# Altium footprint library libDigital.PCBLIB: 1 footprints
Each footprint in its own frame and in the unit in brackets; x right, y up, seen from the top. Pads: shape width x height; smd on the part's side, far side on the other; paste and mask are expansions set on the pad; w line width, h text height; cw(c..) or ccw(c..) is an arc to the next point about the centre after c.
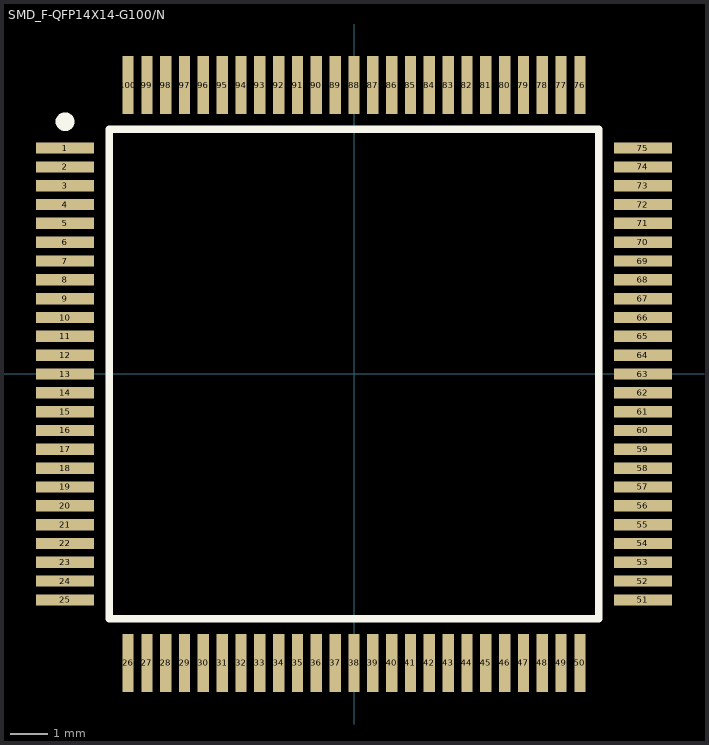
[diagram p0: the footprint, top view; thin cyan lines are the x and y axes]

## SMD_F-QFP14X14-G100/N [mm] "SMD_F-QFP14X14-G100/N"
pads (100):
  rect 1.55x0.3 smd: 1(-7.681,5.992) 2(-7.681,5.492) 3(-7.681,4.992) 4(-7.681,4.492) 5(-7.681,3.992) 6(-7.681,3.492) 7(-7.681,2.992) 8(-7.681,2.492) 9(-7.681,1.992) 10(-7.681,1.492) 11(-7.681,0.992) 12(-7.681,0.492) 13(-7.681,-0.008) 14(-7.681,-0.508) 15(-7.681,-1.008) 16(-7.681,-1.508) 17(-7.681,-2.008) 18(-7.681,-2.508) 19(-7.681,-3.008) 20(-7.681,-3.508) 21(-7.681,-4.008) 22(-7.681,-4.508) 23(-7.681,-5.008) 24(-7.681,-5.508) 25(-7.681,-6.008) 51(7.669,-6.008) 52(7.669,-5.508) 53(7.669,-5.008) 54(7.669,-4.508) 55(7.669,-4.008) 56(7.669,-3.508) 57(7.669,-3.008) 58(7.669,-2.508) 59(7.669,-2.008) 60(7.669,-1.508) 61(7.669,-1.008) 62(7.669,-0.508) 63(7.669,-0.008) 64(7.669,0.492) 65(7.669,0.992) 66(7.669,1.492) 67(7.669,1.992) 68(7.669,2.492) 69(7.669,2.992) 70(7.669,3.492) 71(7.669,3.992) 72(7.669,4.492) 73(7.669,4.992) 74(7.669,5.492) 75(7.669,5.992)
  rect 0.3x1.55 smd: 26(-6.006,-7.683) 27(-5.506,-7.683) 28(-5.006,-7.683) 29(-4.506,-7.683) 30(-4.006,-7.683) 31(-3.506,-7.683) 32(-3.006,-7.683) 33(-2.506,-7.683) 34(-2.006,-7.683) 35(-1.506,-7.683) 36(-1.006,-7.683) 37(-0.506,-7.683) 38(-0.006,-7.683) 39(0.494,-7.683) 40(0.994,-7.683) 41(1.494,-7.683) 42(1.994,-7.683) 43(2.494,-7.683) 44(2.994,-7.683) 45(3.494,-7.683) 46(3.994,-7.683) 47(4.494,-7.683) 48(4.994,-7.683) 49(5.494,-7.683) 50(5.994,-7.683) 76(5.994,7.667) 77(5.494,7.667) 78(4.994,7.667) 79(4.494,7.667) 80(3.994,7.667) 81(3.494,7.667) 82(2.994,7.667) 83(2.494,7.667) 84(1.994,7.667) 85(1.494,7.667) 86(0.994,7.667) 87(0.494,7.667) 88(-0.006,7.667) 89(-0.506,7.667) 90(-1.006,7.667) 91(-1.506,7.667) 92(-2.006,7.667) 93(-2.506,7.667) 94(-3.006,7.667) 95(-3.506,7.667) 96(-4.006,7.667) 97(-4.506,7.667) 98(-5.006,7.667) 99(-5.506,7.667) 100(-6.006,7.667)
Top Overlay:
  circle w0.25: c-7.681,6.692 r0.125
  lines w0.2: -6.506,-6.508 -6.506,6.492 6.494,6.492 6.494,-6.508 -6.506,-6.508